# EAGLE library part RJSSE-5380 (library piccoli)
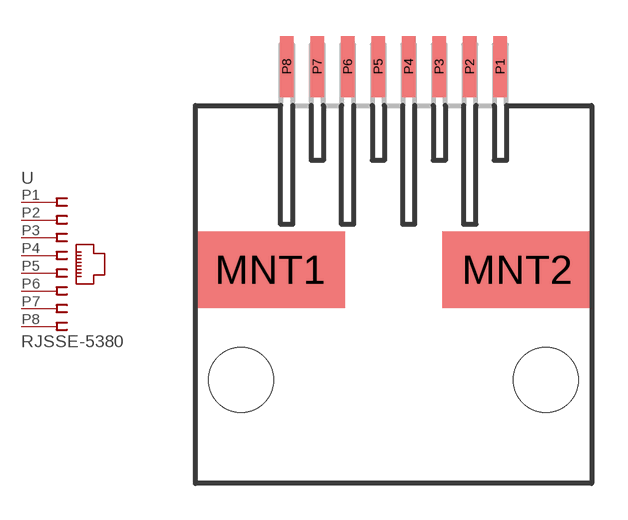
[diagram p10: symbol with the pads of RJSSE-5380; footprint RJSSE-5380]

Designator prefix -

## RJSSE-5380  [RJSSE-5380]
P1  1  pas
P2  2  pas
P3  3  pas
P4  4  pas
P5  5  pas
P6  6  pas
P7  7  pas
P8  8  pas

## Footprint RJSSE-5380 (pad centres in mm)
smd 6.223 x 3.175: MNT1 -5.144,2.045; MNT2 5.144,2.045
smd 0.559 x 2.54: P1 4.445,10.516; P2 3.175,10.516; P3 1.905,10.516; P4 0.635,10.516; P5 -0.635,10.516; P6 -1.905,10.516; P7 -3.175,10.516; P8 -4.445,10.516
hole 2.692 at -6.35,-2.54
hole 2.692 at 6.35,-2.54